# Altium footprint library ESE516A2.PcbLib: 6 footprints
Each footprint in its own frame and in the unit in brackets; x right, y up, seen from the top. Pads: shape width x height; smd on the part's side, far side on the other; paste and mask are expansions set on the pad; w line width, h text height; cw(c..) or ccw(c..) is an arc to the next point about the centre after c.
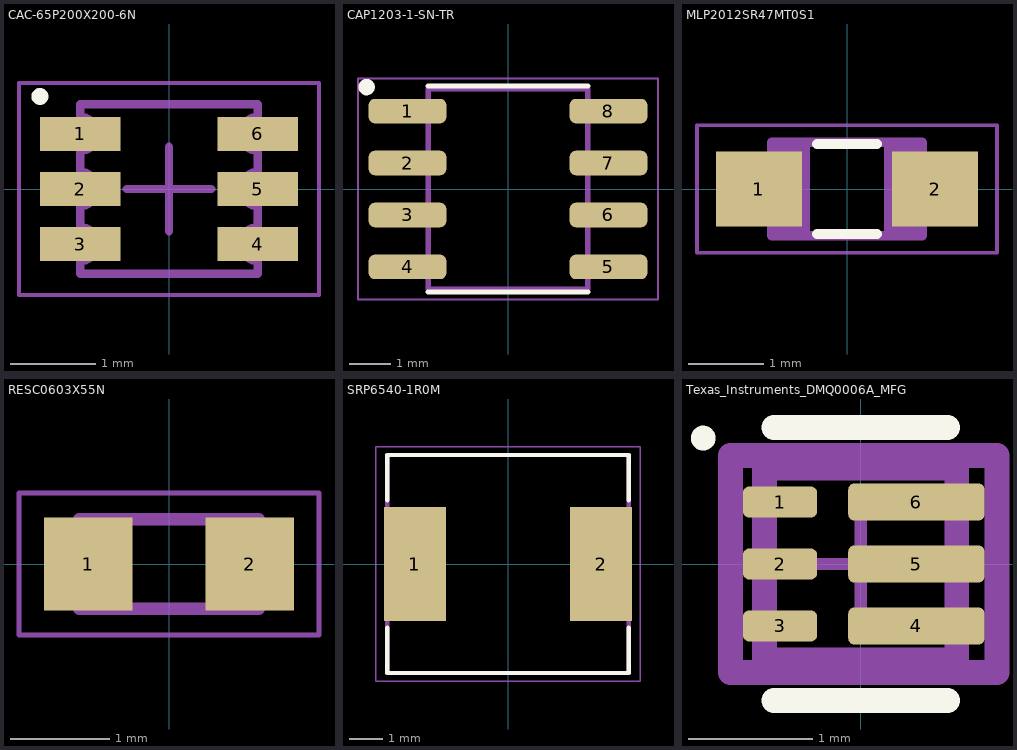
[diagram p0: the footprints below, top view; thin cyan lines are the x and y axes]

## CAC-65P200X200-6N [mm] "Chip Array, Concave, 6-Leads, Pitch 0.65mm,  Body 2.00x2.00mm,  IPC Medium Density"
height 0.87
pads (6):
  rect 0.95x0.4 smd: 1(-1.05,0.65) 2(-1.05,0) 3(-1.05,-0.65) 4(1.05,-0.65) 5(1.05,0) 6(1.05,0.65)
Top Overlay:
  circle w0.1: c-1.524,1.092 r0.05
Mechanical 13:
  lines w0.1: -1.05,-1 -1.05,-0.85 ccw(c-1.05,-0.65) -1.05,-0.45 -1.05,-0.2 ccw(c-1.05,0) -1.05,0.2 -1.05,0.45 ccw(c-1.05,0.65) -1.05,0.85 -1.05,1 1.05,1 1.05,0.85 ccw(c1.05,0.65) 1.05,0.45 1.05,0.2 ccw(c1.05,0) 1.05,-0.2 1.05,-0.45 ccw(c1.05,-0.65) 1.05,-0.85 1.05,-1 -1.05,-1
Mechanical 15:
  lines w0.05: -1.77,-1.25 -1.77,1.25 1.77,1.25 1.77,-1.25 -1.77,-1.25
  lines w0.1: -0.5,0 0.5,0 ; 0,-0.5 0,0.5
3D body "CAC-65P200X200-6N.step": height 0.87, standoff 0, extent -1.05,-1 1.05,1

## CAP1203-1-SN-TR [mm] "3-Channel Touch Sensor"
pads (8):
  rrect50% 1.9x0.6 smd: 1(-2.455,1.905) 2(-2.455,0.635) 3(-2.455,-0.635) 4(-2.455,-1.905) 5(2.455,-1.905) 6(2.455,-0.635) 7(2.455,0.635) 8(2.455,1.905)
Top Overlay:
  circle w0.2: c-3.454,2.489 r0.1
  lines w0.127: -1.95,-2.519 1.95,-2.519 ; -1.95,2.519 1.95,2.519
Mechanical 13:
  lines w0.127: -1.95,-2.45 -1.95,2.45 1.95,2.45 1.95,-2.45 -1.95,-2.45
Mechanical 15:
  lines w0.05: -3.665,-2.7 3.665,-2.7 3.665,2.7 -3.665,2.7 -3.665,-2.7
3D body "CAP1203-1-SN-TR.STEP": height 1.76, standoff 0.01, extent -3,-2.45 3,2.45

## MLP2012SR47MT0S1 [mm]
pads (2):
  rect 1.15x1 smd: 1(-1.175,0) 2(1.175,0)
Top Overlay:
  lines w0.127: -0.4,-0.6 0.4,-0.6 ; -0.4,0.6 0.4,0.6
Mechanical 13:
  region: -0.5,-0.625 -1,-0.625 -1,0.625 -0.5,0.625
  region: 1,-0.625 0.5,-0.625 0.5,0.625 1,0.625
  lines w0.127: -1,-0.625 1,-0.625 1,0.625 -1,0.625 -1,-0.625
Mechanical 15:
  lines w0.051: -2,-0.85 2,-0.85 2,0.85 -2,0.85 -2,-0.85
3D body "MLP2012SR47MT0S1.STEP": height 1.26, standoff 0.01, extent -1,-0.525 1,0.525

## RESC0603X55N [mm]
pads (2):
  rect 0.89x0.93 smd: 1(-0.814,0) 2(0.814,0)
Mechanical 13:
  lines w0.127: -0.9,-0.45 -0.9,0.45 0.9,0.45 0.9,-0.45 -0.9,-0.45
Mechanical 15:
  lines w0.05: -1.508,-0.715 -1.508,0.715 1.508,0.715 1.508,-0.715 -1.508,-0.715
3D body: height 0.8, standoff 0, extent -0.8,-0.4 0.8,0.4

## SRP6540-1R0M [mm]
pads (2):
  rect 1.85x3.4 smd: 1(-2.775,0) 2(2.775,0)
Top Overlay:
  lines w0.127: -3.6,-1.9 -3.6,-3.25 3.6,-3.25 3.6,-1.9 ; -3.6,1.9 -3.6,3.25 3.6,3.25 3.6,1.9
Mechanical 13:
  lines w0.127: -3.6,-3.25 -3.6,3.25 3.6,3.25 3.6,-3.25 -3.6,-3.25
Mechanical 15:
  lines w0.05: -3.95,-3.5 -3.95,3.5 3.95,3.5 3.95,-3.5 -3.95,-3.5
3D body: height 4, standoff 0, extent -3.5,-3.25 3.6,3.25

## Texas_Instruments_DMQ0006A_MFG [mm]
pads (6):
  rrect40% 0.6x0.25 smd paste+0 mask-1000: 1(-0.65,0.5) 2(-0.65,0) 3(-0.65,-0.5)
  rrect33% 1.1x0.3 smd paste-1000 mask-1000: 4(0.45,-0.5) 5(0.45,0) 6(0.45,0.5)
Top Overlay:
  circle w0.1: c-1.27,1.016 r0.05
  lines w0.2: -0.7,-1.1 0.7,-1.1 ; -0.7,1.1 0.7,1.1
Top Paste:
  region: 0.9,-0.4 0.91,-0.4 0.928,-0.408 0.942,-0.422 0.95,-0.44 0.95,-0.45 0.95,-0.55 0.95,-0.56 0.942,-0.578 0.928,-0.592 0.91,-0.6 0.9,-0.6 0.15,-0.6 0.14,-0.6 0.122,-0.592 0.108,-0.578 0.1,-0.56 0.1,-0.55 0.1,-0.45 0.1,-0.44 0.108,-0.422 0.122,-0.408 0.14,-0.4 0.15,-0.4
  region: 0.95,0.05 0.95,-0.05 0.95,-0.06 0.942,-0.078 0.928,-0.092 0.91,-0.1 0.9,-0.1 0.15,-0.1 0.14,-0.1 0.122,-0.092 0.108,-0.078 0.1,-0.06 0.1,-0.05 0.1,0.05 0.1,0.06 0.108,0.078 0.122,0.092 0.14,0.1 0.15,0.1 0.9,0.1 0.91,0.1 0.928,0.092 0.942,0.078 0.95,0.06
  region: 0.1,0.45 0.1,0.55 0.1,0.56 0.108,0.578 0.122,0.592 0.14,0.6 0.15,0.6 0.9,0.6 0.91,0.6 0.928,0.592 0.942,0.578 0.95,0.56 0.95,0.55 0.95,0.45 0.95,0.44 0.942,0.422 0.928,0.408 0.91,0.4 0.9,0.4 0.15,0.4 0.14,0.4 0.122,0.408 0.108,0.422 0.1,0.44
Top Solder:
  drawing of 6 lines, arcs and shapes, not listed
Mechanical 10:
  lines w0.2: -1.05,-0.875 1.1,-0.875 1.1,0.875 -1.05,0.875 -1.05,-0.875
  text ".Designator" at 0.025,0.188 h1
Mechanical 12:
  lines w0.2: -0.775,-0.775 0.775,-0.775 0.775,0.775 -0.775,0.775 -0.775,-0.775
Mechanical 15:
  lines w0.1: -0.5,0 0.5,0 ; 0,-0.5 0,0.5
  lines w0.2: -1.05,-0.875 1.1,-0.875 1.1,0.875 -1.05,0.875 -1.05,-0.875
3D body "IC_Texas_Instruments_TPS62827DMQR_eec.STEP": height 0.25, standoff 0, extent -1.05,-0.875 1.1,0.875